# EAGLE library part 108-2AD1T2224-EVX (library switch-mountain)
Toggle Switch DPDT, Sealed Sub-Miniature
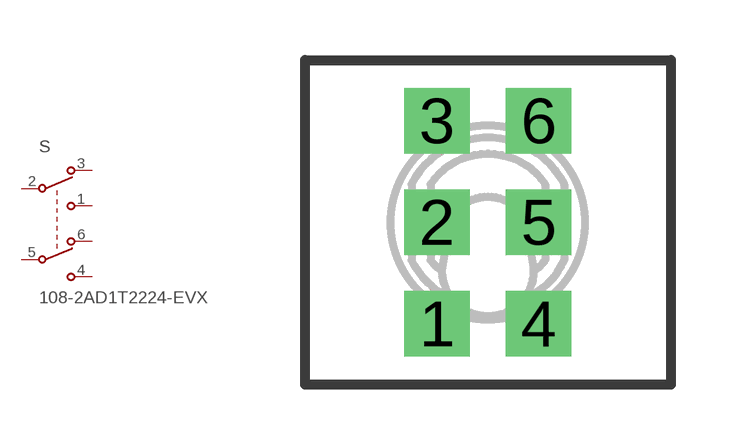
[diagram p1: symbol with the pads of 108-2AD1T2224-EVX; footprint 108-2AD1T2224-EVX]

Designator prefix S

## 108-2AD1T2224-EVX  [108-2AD1T2224-EVX]
1  NO1  pas
2  COM1  pas
3  NC1  pas
4  NO2  pas
5  COM2  pas
6  NC2  pas

## Footprint 108-2AD1T2224-EVX (pad centres in mm)
Sealed Sub-Miniature Toggle Switch
drill 1.092 square: 1 -1.27,-2.54; 2 -1.27,0; 3 -1.27,2.54; 4 1.27,-2.54; 5 1.27,0; 6 1.27,2.54